# EAGLE library part LM555CN (library Fairchild_By_element14_Batch_1)
Single Timer
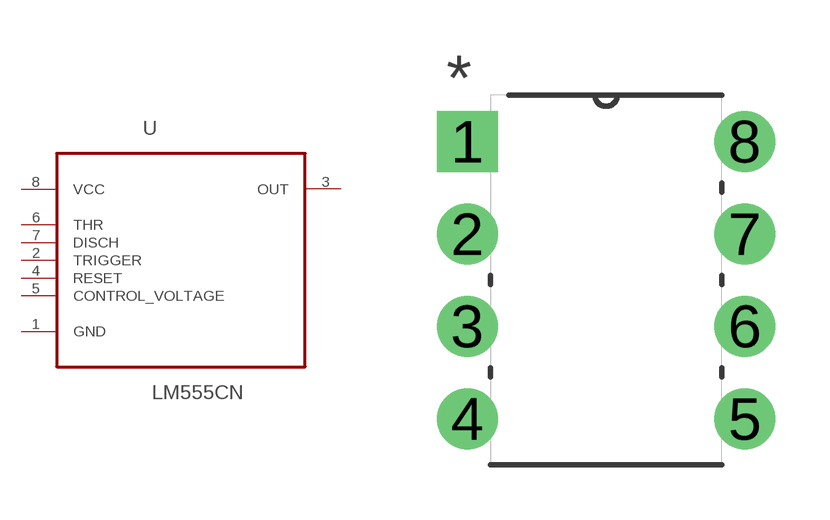
[diagram p220: symbol with the pads of DIP254P762X533-8; footprint DIP254P762X533-8]

Designator prefix U

## LM555CN (MPN: LM555CN; OC_FARNELL: 9488235; OC_NEWARK: 58K8943; PACKAGE: DIP-8; SUPPLIER: FAIRCHILD SEMICONDUCTOR)  [DIP254P762X533-8]
1  GND  pas
2  TRIGGER  in
3  OUT  out
4  RESET  in
5  CONTROL_VOLTAGE  in
6  THR  in
7  DISCH  in
8  VCC  pwr

## Footprint DIP254P762X533-8 (pad centres in mm)
drill 1.118 square: 1 -7.62,7.62
drill 1.118: 2 -7.62,5.08; 3 -7.62,2.54; 4 -7.62,0; 5 0,0; 6 0,2.54; 7 0,5.08; 8 0,7.62